# Altium footprint library Free scale.PcbLib: 5 footprints
Each footprint in its own frame and in the unit in brackets; x right, y up, seen from the top. Pads: shape width x height; smd on the part's side, far side on the other; paste and mask are expansions set on the pad; w line width, h text height; cw(c..) or ccw(c..) is an arc to the next point about the centre after c.
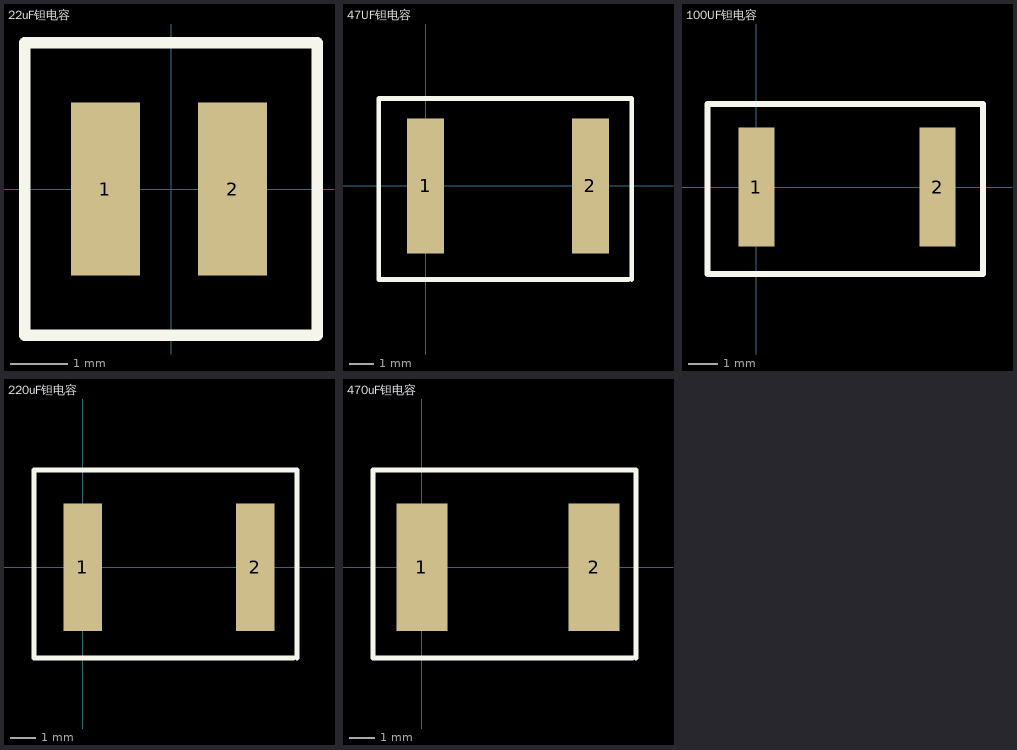
[diagram p0: the footprints below, top view; thin cyan lines are the x and y axes]

## 22uF钽电容 [mm]
pads (2):
  rect 1.2x3 smd: 1(-1.143,0) 2(1.067,0)
Top Overlay:
  lines w0.2: -2.54,-2.54 -2.54,2.54 2.54,2.54 2.54,-2.54 -2.54,-2.54

## 47UF钽电容 [mm]
pads (2):
  rect 1.5x5.5 smd: 1(0,0) 2(6.7,0)
Top Overlay:
  lines w0.2: 8.255,-3.81 -1.905,-3.81 -1.905,3.556 -1.651,3.556 8.382,3.556 8.382,-3.81

## 100UF钽电容 [mm]
pads (2):
  rect 1.2x4 smd: 1(0,0) 2(6.096,0)
Top Overlay:
  lines w0.2: -1.651,-2.921 7.62,-2.921 7.62,2.794 -0.762,2.794 -1.651,2.794 -1.651,-2.921

## 220uF钽电容 [mm]
pads (2):
  rect 1.5x5 smd: 1(0,0) 2(6.75,0)
Top Overlay:
  lines w0.2: 8.255,-3.556 -1.905,-3.556 -1.905,3.81 -1.651,3.81 8.382,3.81 8.382,-3.556

## 470uF钽电容 [mm]
pads (2):
  rect 2x5 smd: 1(0,0) 2(6.75,0)
Top Overlay:
  lines w0.2: 8.255,-3.556 -1.905,-3.556 -1.905,3.81 -1.651,3.81 8.382,3.81 8.382,-3.556